# Altium footprint library LED_THT.PcbLib: 82 footprints (part 2 of 6)
Each footprint in its own frame and in the unit in brackets; x right, y up, seen from the top. Pads: shape width x height; smd on the part's side, far side on the other; paste and mask are expansions set on the pad; w line width, h text height; cw(c..) or ccw(c..) is an arc to the next point about the centre after c.
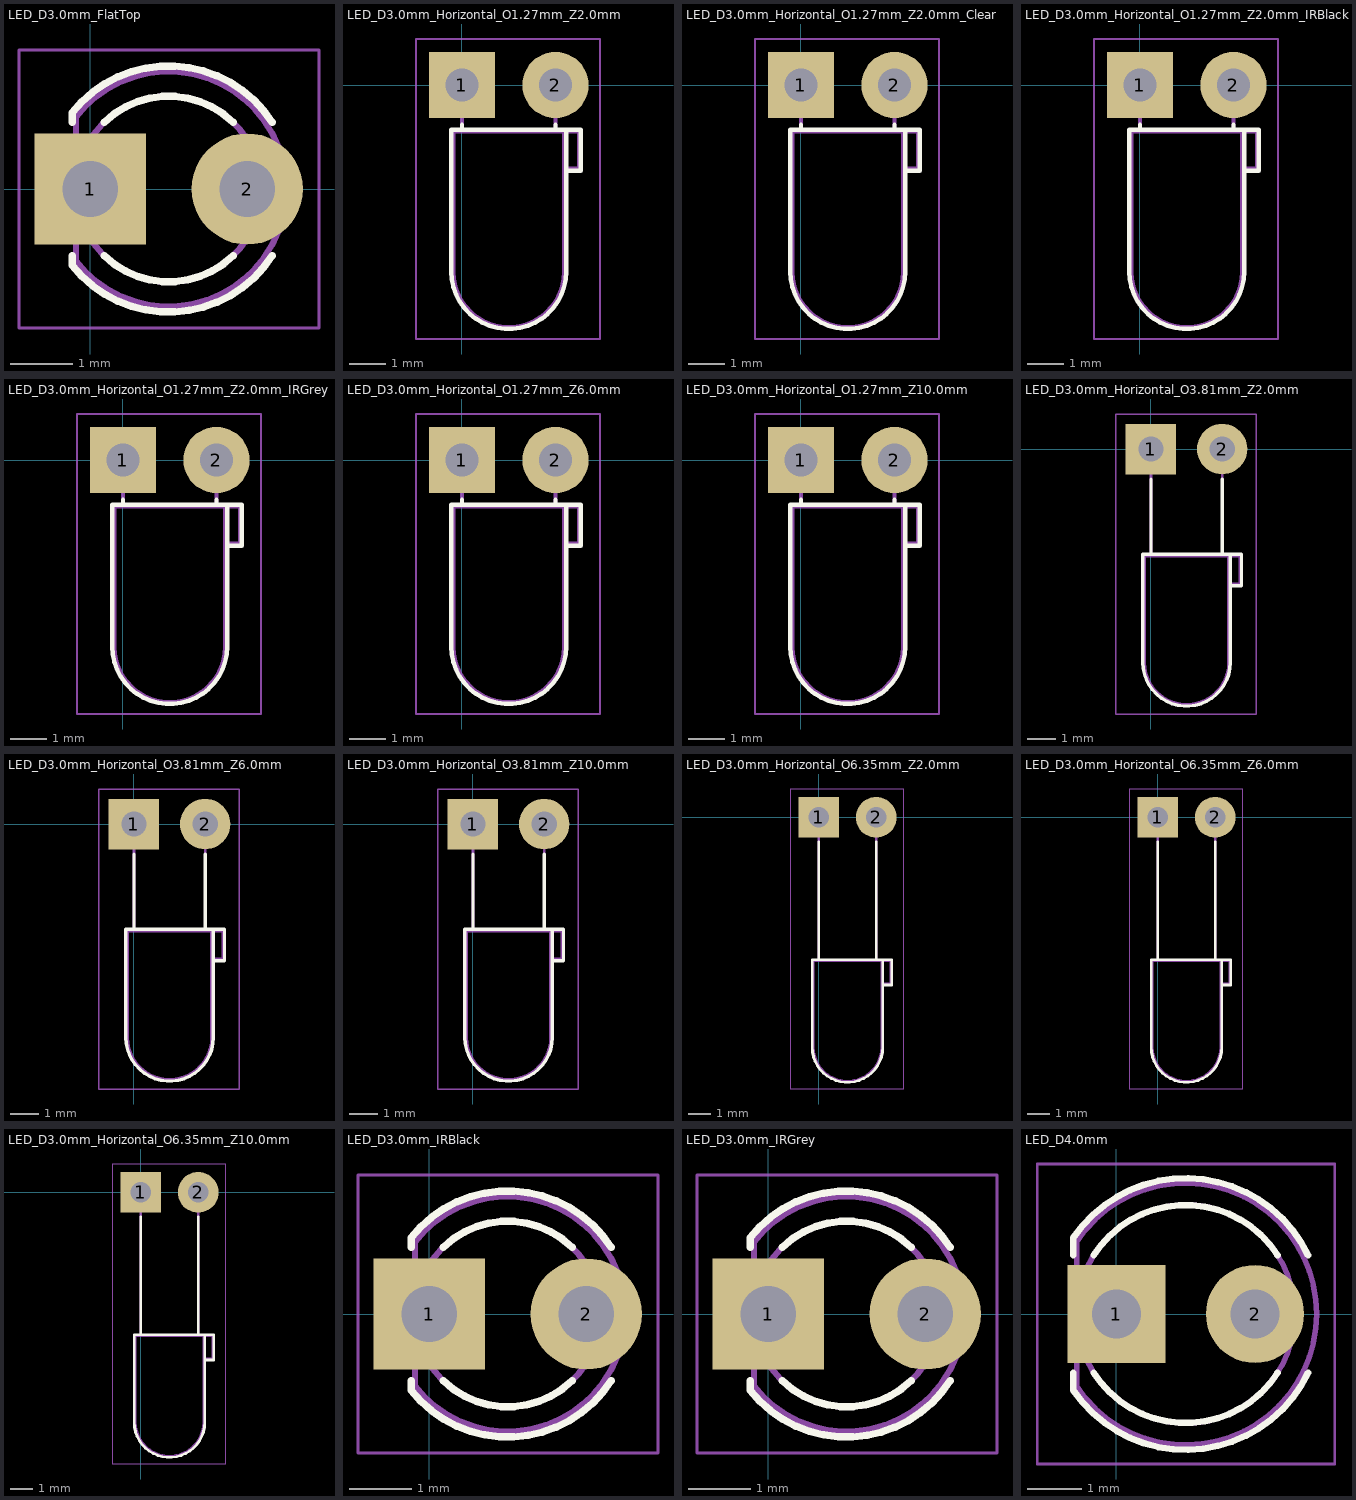
[diagram p1: the footprints below, top view; thin cyan lines are the x and y axes]

## LED_D3.0mm_FlatTop [mm]
pads (2):
  rect 1.8x1.8 hole 0.9: 1(0,0)
  round 1.8 hole 0.9: 2(2.54,0)
F.SilkS:
  lines w0.12: -0.29,-1.08 -0.29,-1.236 ccw(c1.27,0) 2.942,-1.079 ; -0.29,1.08 -0.29,1.236 cw(c1.27,0) 2.942,1.079 ; 0.229,-1.08 ccw(c1.27,0) 2.311,-1.08 ; 0.229,1.08 cw(c1.27,0) 2.311,1.08
F.CrtYd:
  lines w0.05: -1.15,-2.25 -1.15,2.25 3.7,2.25 3.7,-2.25 -1.15,-2.25
F.Fab:
  circle w0.1: c1.27,0 r1.5
  lines w0.1: -0.231,-1.165 ccw(c1.27,0) -0.23,1.166 -0.23,-1.166

## LED_D3.0mm_Horizontal_O1.27mm_Z2.0mm [mm]
pads (2):
  rect 1.8x1.8 hole 0.9: 1(0,0)
  round 1.8 hole 0.9: 2(2.54,0)
F.SilkS:
  lines w0.12: 2.83,-1.21 -0.29,-1.21 -0.29,-5.07 ccw(c1.27,-5.07) 2.83,-5.07 2.83,-1.21 ; 2.83,-1.21 2.83,-2.33 3.23,-2.33 3.23,-1.21 2.83,-1.21 ; 0,-1.21 0,-1.08 0,-1.21 ; 2.54,-1.21 2.54,-1.08 2.54,-1.21
F.CrtYd:
  lines w0.05: -1.25,-6.9 3.75,-6.9 3.75,1.25 -1.25,1.25 -1.25,-6.9
F.Fab:
  lines w0.1: 2.77,-1.27 3.17,-1.27 3.17,-2.27 2.77,-2.27 2.77,-1.27 ; 2.77,-1.27 2.77,-5.07 cw(c1.27,-5.07) -0.23,-5.07 -0.23,-1.27 2.77,-1.27 ; 0,-1.27 0,0 0,-1.27 ; 2.54,-1.27 2.54,0 2.54,-1.27

## LED_D3.0mm_Horizontal_O1.27mm_Z2.0mm_Clear [mm]
pads (2):
  rect 1.8x1.8 hole 0.9: 1(0,0)
  round 1.8 hole 0.9: 2(2.54,0)
F.SilkS:
  lines w0.12: 2.83,-1.21 -0.29,-1.21 -0.29,-5.07 ccw(c1.27,-5.07) 2.83,-5.07 2.83,-1.21 ; 2.83,-1.21 3.23,-1.21 3.23,-2.33 2.83,-2.33 2.83,-1.21 ; 0,-1.21 0,-1.08 0,-1.21 ; 2.54,-1.21 2.54,-1.08 2.54,-1.21
F.CrtYd:
  lines w0.05: -1.25,-6.9 -1.25,1.25 3.75,1.25 3.75,-6.9 -1.25,-6.9
F.Fab:
  lines w0.1: 2.77,-1.27 3.17,-1.27 3.17,-2.27 2.77,-2.27 2.77,-1.27 ; 2.77,-1.27 2.77,-5.07 cw(c1.27,-5.07) -0.23,-5.07 -0.23,-1.27 2.77,-1.27 ; 0,-1.27 0,0 0,-1.27 ; 2.54,-1.27 2.54,0 2.54,-1.27
  text "'.Designator'" at -2.777,-0.84 h1

## LED_D3.0mm_Horizontal_O1.27mm_Z2.0mm_IRBlack [mm]
pads (2):
  rect 1.8x1.8 hole 0.9: 1(0,0)
  round 1.8 hole 0.9: 2(2.54,0)
F.SilkS:
  lines w0.12: 2.83,-1.21 -0.29,-1.21 -0.29,-5.07 ccw(c1.27,-5.07) 2.83,-5.07 2.83,-1.21 ; 2.83,-1.21 2.83,-2.33 3.23,-2.33 3.23,-1.21 2.83,-1.21 ; 0,-1.21 0,-1.08 0,-1.21 ; 2.54,-1.21 2.54,-1.08 2.54,-1.21
F.CrtYd:
  lines w0.05: -1.25,-6.9 -1.25,1.25 3.75,1.25 3.75,-6.9 -1.25,-6.9
F.Fab:
  lines w0.1: 2.77,-1.27 3.17,-1.27 3.17,-2.27 2.77,-2.27 2.77,-1.27 ; 2.77,-1.27 -0.23,-1.27 -0.23,-5.07 ccw(c1.27,-5.07) 2.77,-5.07 2.77,-1.27 ; 0,-1.27 0,0 0,-1.27 ; 2.54,-1.27 2.54,0 2.54,-1.27
  text "'.Designator'" at -2.777,-0.84 h1

## LED_D3.0mm_Horizontal_O1.27mm_Z2.0mm_IRGrey [mm]
pads (2):
  rect 1.8x1.8 hole 0.9: 1(0,0)
  round 1.8 hole 0.9: 2(2.54,0)
F.SilkS:
  lines w0.12: 2.83,-1.21 2.83,-5.07 cw(c1.27,-5.07) -0.29,-5.07 -0.29,-1.21 2.83,-1.21 ; 2.83,-1.21 2.83,-2.33 3.23,-2.33 3.23,-1.21 2.83,-1.21 ; 0,-1.21 0,-1.08 0,-1.21 ; 2.54,-1.21 2.54,-1.08 2.54,-1.21
F.CrtYd:
  lines w0.05: -1.25,-6.9 3.75,-6.9 3.75,1.25 -1.25,1.25 -1.25,-6.9
F.Fab:
  lines w0.1: 2.77,-1.27 2.77,-5.07 cw(c1.27,-5.07) -0.23,-5.07 -0.23,-1.27 2.77,-1.27 ; 2.77,-1.27 3.17,-1.27 3.17,-2.27 2.77,-2.27 2.77,-1.27 ; 0,-1.27 0,0 0,-1.27 ; 2.54,-1.27 2.54,0 2.54,-1.27
  text "'.Designator'" at -2.777,-0.84 h1

## LED_D3.0mm_Horizontal_O1.27mm_Z6.0mm [mm]
pads (2):
  rect 1.8x1.8 hole 0.9: 1(0,0)
  round 1.8 hole 0.9: 2(2.54,0)
F.SilkS:
  lines w0.12: 2.83,-1.21 -0.29,-1.21 -0.29,-5.07 ccw(c1.27,-5.07) 2.83,-5.07 2.83,-1.21 ; 2.83,-1.21 3.23,-1.21 3.23,-2.33 2.83,-2.33 2.83,-1.21 ; 0,-1.21 0,-1.08 0,-1.21 ; 2.54,-1.21 2.54,-1.08 2.54,-1.21
F.CrtYd:
  lines w0.05: -1.25,-6.9 3.75,-6.9 3.75,1.25 -1.25,1.25 -1.25,-6.9
F.Fab:
  lines w0.1: 2.77,-1.27 2.77,-5.07 cw(c1.27,-5.07) -0.23,-5.07 -0.23,-1.27 2.77,-1.27 ; 2.77,-1.27 2.77,-2.27 3.17,-2.27 3.17,-1.27 2.77,-1.27 ; 0,-1.27 0,0 0,-1.27 ; 2.54,-1.27 2.54,0 2.54,-1.27

## LED_D3.0mm_Horizontal_O1.27mm_Z10.0mm [mm]
pads (2):
  rect 1.8x1.8 hole 0.9: 1(0,0)
  round 1.8 hole 0.9: 2(2.54,0)
F.SilkS:
  lines w0.12: 2.83,-1.21 -0.29,-1.21 -0.29,-5.07 ccw(c1.27,-5.07) 2.83,-5.07 2.83,-1.21 ; 2.83,-1.21 3.23,-1.21 3.23,-2.33 2.83,-2.33 2.83,-1.21 ; 0,-1.21 0,-1.08 0,-1.21 ; 2.54,-1.21 2.54,-1.08 2.54,-1.21
F.CrtYd:
  lines w0.05: -1.25,-6.9 3.75,-6.9 3.75,1.25 -1.25,1.25 -1.25,-6.9
F.Fab:
  lines w0.1: 2.77,-1.27 -0.23,-1.27 -0.23,-5.07 ccw(c1.27,-5.07) 2.77,-5.07 2.77,-1.27 ; 2.77,-1.27 2.77,-2.27 3.17,-2.27 3.17,-1.27 2.77,-1.27 ; 0,-1.27 0,0 0,-1.27 ; 2.54,-1.27 2.54,0 2.54,-1.27

## LED_D3.0mm_Horizontal_O3.81mm_Z2.0mm [mm]
pads (2):
  rect 1.8x1.8 hole 0.9: 1(0,0)
  round 1.8 hole 0.9: 2(2.54,0)
F.SilkS:
  lines w0.12: 2.83,-3.75 3.23,-3.75 3.23,-4.87 2.83,-4.87 2.83,-3.75 ; 2.83,-3.75 -0.29,-3.75 -0.29,-7.61 ccw(c1.27,-7.61) 2.83,-7.61 2.83,-3.75 ; 0,-3.75 0,-1.08 0,-3.75 ; 2.54,-3.75 2.54,-1.08 2.54,-3.75
F.CrtYd:
  lines w0.05: -1.25,-9.45 3.75,-9.45 3.75,1.25 -1.25,1.25 -1.25,-9.45
F.Fab:
  lines w0.1: 2.77,-3.81 3.17,-3.81 3.17,-4.81 2.77,-4.81 2.77,-3.81 ; 2.77,-3.81 -0.23,-3.81 -0.23,-7.61 ccw(c1.27,-7.61) 2.77,-7.61 2.77,-3.81 ; 0,-3.81 0,0 0,-3.81 ; 2.54,-3.81 2.54,0 2.54,-3.81

## LED_D3.0mm_Horizontal_O3.81mm_Z6.0mm [mm]
pads (2):
  rect 1.8x1.8 hole 0.9: 1(0,0)
  round 1.8 hole 0.9: 2(2.54,0)
F.SilkS:
  lines w0.12: 2.83,-3.75 3.23,-3.75 3.23,-4.87 2.83,-4.87 2.83,-3.75 ; 2.83,-3.75 -0.29,-3.75 -0.29,-7.61 ccw(c1.27,-7.61) 2.83,-7.61 2.83,-3.75 ; 0,-3.75 0,-1.08 0,-3.75 ; 2.54,-3.75 2.54,-1.08 2.54,-3.75
F.CrtYd:
  lines w0.05: -1.25,-9.45 -1.25,1.25 3.75,1.25 3.75,-9.45 -1.25,-9.45
F.Fab:
  lines w0.1: 2.77,-3.81 -0.23,-3.81 -0.23,-7.61 ccw(c1.27,-7.61) 2.77,-7.61 2.77,-3.81 ; 2.77,-3.81 3.17,-3.81 3.17,-4.81 2.77,-4.81 2.77,-3.81 ; 0,-3.81 0,0 0,-3.81 ; 2.54,-3.81 2.54,0 2.54,-3.81

## LED_D3.0mm_Horizontal_O3.81mm_Z10.0mm [mm]
pads (2):
  rect 1.8x1.8 hole 0.9: 1(0,0)
  round 1.8 hole 0.9: 2(2.54,0)
F.SilkS:
  lines w0.12: 2.83,-3.75 2.83,-7.61 cw(c1.27,-7.61) -0.29,-7.61 -0.29,-3.75 2.83,-3.75 ; 2.83,-3.75 2.83,-4.87 3.23,-4.87 3.23,-3.75 2.83,-3.75 ; 0,-3.75 0,-1.08 0,-3.75 ; 2.54,-3.75 2.54,-1.08 2.54,-3.75
F.CrtYd:
  lines w0.05: -1.25,-9.45 3.75,-9.45 3.75,1.25 -1.25,1.25 -1.25,-9.45
F.Fab:
  lines w0.1: 2.77,-3.81 2.77,-7.61 cw(c1.27,-7.61) -0.23,-7.61 -0.23,-3.81 2.77,-3.81 ; 2.77,-3.81 2.77,-4.81 3.17,-4.81 3.17,-3.81 2.77,-3.81 ; 0,-3.81 0,0 0,-3.81 ; 2.54,-3.81 2.54,0 2.54,-3.81

## LED_D3.0mm_Horizontal_O6.35mm_Z2.0mm [mm]
pads (2):
  rect 1.8x1.8 hole 0.9: 1(0,0)
  round 1.8 hole 0.9: 2(2.54,0)
F.SilkS:
  lines w0.12: 2.83,-6.29 2.83,-10.15 cw(c1.27,-10.15) -0.29,-10.15 -0.29,-6.29 2.83,-6.29 ; 2.83,-6.29 2.83,-7.41 3.23,-7.41 3.23,-6.29 2.83,-6.29 ; 0,-6.29 0,-1.08 0,-6.29 ; 2.54,-6.29 2.54,-1.08 2.54,-6.29
F.CrtYd:
  lines w0.05: -1.25,-12 3.75,-12 3.75,1.25 -1.25,1.25 -1.25,-12
F.Fab:
  lines w0.1: 2.77,-6.35 2.77,-7.35 3.17,-7.35 3.17,-6.35 2.77,-6.35 ; 2.77,-6.35 -0.23,-6.35 -0.23,-10.15 ccw(c1.27,-10.15) 2.77,-10.15 2.77,-6.35 ; 0,-6.35 0,0 0,-6.35 ; 2.54,-6.35 2.54,0 2.54,-6.35

## LED_D3.0mm_Horizontal_O6.35mm_Z6.0mm [mm]
pads (2):
  rect 1.8x1.8 hole 0.9: 1(0,0)
  round 1.8 hole 0.9: 2(2.54,0)
F.SilkS:
  lines w0.12: 2.83,-6.29 2.83,-10.15 cw(c1.27,-10.15) -0.29,-10.15 -0.29,-6.29 2.83,-6.29 ; 2.83,-6.29 2.83,-7.41 3.23,-7.41 3.23,-6.29 2.83,-6.29 ; 0,-6.29 0,-1.08 0,-6.29 ; 2.54,-6.29 2.54,-1.08 2.54,-6.29
F.CrtYd:
  lines w0.05: -1.25,-12 3.75,-12 3.75,1.25 -1.25,1.25 -1.25,-12
F.Fab:
  lines w0.1: 2.77,-6.35 3.17,-6.35 3.17,-7.35 2.77,-7.35 2.77,-6.35 ; 2.77,-6.35 2.77,-10.15 cw(c1.27,-10.15) -0.23,-10.15 -0.23,-6.35 2.77,-6.35 ; 0,-6.35 0,0 0,-6.35 ; 2.54,-6.35 2.54,0 2.54,-6.35

## LED_D3.0mm_Horizontal_O6.35mm_Z10.0mm [mm]
pads (2):
  rect 1.8x1.8 hole 0.9: 1(0,0)
  round 1.8 hole 0.9: 2(2.54,0)
F.SilkS:
  lines w0.12: 2.83,-6.29 3.23,-6.29 3.23,-7.41 2.83,-7.41 2.83,-6.29 ; 2.83,-6.29 -0.29,-6.29 -0.29,-10.15 ccw(c1.27,-10.15) 2.83,-10.15 2.83,-6.29 ; 0,-6.29 0,-1.08 0,-6.29 ; 2.54,-6.29 2.54,-1.08 2.54,-6.29
F.CrtYd:
  lines w0.05: -1.25,-12 3.75,-12 3.75,1.25 -1.25,1.25 -1.25,-12
F.Fab:
  lines w0.1: 2.77,-6.35 2.77,-10.15 cw(c1.27,-10.15) -0.23,-10.15 -0.23,-6.35 2.77,-6.35 ; 2.77,-6.35 2.77,-7.35 3.17,-7.35 3.17,-6.35 2.77,-6.35 ; 0,-6.35 0,0 0,-6.35 ; 2.54,-6.35 2.54,0 2.54,-6.35

## LED_D3.0mm_IRBlack [mm]
pads (2):
  rect 1.8x1.8 hole 0.9: 1(0,0)
  round 1.8 hole 0.9: 2(2.54,0)
F.SilkS:
  lines w0.12: -0.29,-1.08 -0.29,-1.236 ccw(c1.27,0) 2.942,-1.079 ; -0.29,1.08 -0.29,1.236 cw(c1.27,0) 2.942,1.079 ; 0.229,-1.08 ccw(c1.27,0) 2.311,-1.08 ; 0.229,1.08 cw(c1.27,0) 2.311,1.08
F.CrtYd:
  lines w0.05: -1.15,-2.25 3.7,-2.25 3.7,2.25 -1.15,2.25 -1.15,-2.25
F.Fab:
  circle w0.1: c1.27,0 r1.5
  lines w0.1: -0.231,-1.165 ccw(c1.27,0) -0.23,1.166 -0.23,-1.166
  text "'.Designator'" at -1.767,-0.672 h0.8

## LED_D3.0mm_IRGrey [mm]
pads (2):
  rect 1.8x1.8 hole 0.9: 1(0,0)
  round 1.8 hole 0.9: 2(2.54,0)
F.SilkS:
  lines w0.12: -0.29,-1.08 -0.29,-1.236 ccw(c1.27,0) 2.942,-1.079 ; -0.29,1.08 -0.29,1.236 cw(c1.27,0) 2.942,1.079 ; 0.229,-1.08 ccw(c1.27,0) 2.311,-1.08 ; 0.229,1.08 cw(c1.27,0) 2.311,1.08
F.CrtYd:
  lines w0.05: -1.15,-2.25 3.7,-2.25 3.7,2.25 -1.15,2.25 -1.15,-2.25
F.Fab:
  circle w0.1: c1.27,0 r1.5
  lines w0.1: -0.231,-1.165 ccw(c1.27,0) -0.23,1.166 -0.23,-1.166
  text "'.Designator'" at -1.767,-0.672 h0.8

## LED_D4.0mm [mm]
pads (2):
  rect 1.8x1.8 hole 0.9: 1(0,0)
  round 1.8 hole 0.9: 2(2.54,0)
F.SilkS:
  lines w0.12: -0.79,-1.399 -0.79,-1.08 ; -0.79,-1.399 ccw(c1.27,0) 3.513,-1.081 ; -0.79,1.08 -0.79,1.399 ; -0.79,1.399 cw(c1.27,0) 3.513,1.081 ; -0.413,-1.08 ccw(c1.27,0) 2.953,-1.081 ; -0.413,1.08 cw(c1.27,0) 2.953,1.081
F.CrtYd:
  lines w0.05: -1.45,-2.75 4,-2.75 4,2.75 -1.45,2.75 -1.45,-2.75
F.Fab:
  circle w0.1: c1.27,0 r2
  lines w0.1: -0.73,-1.327 -0.73,1.327 cw(c1.27,0) -0.73,-1.326